# Altium integrated library UPM1J221MHD1TO.IntLib: 1 symbol
Pins are listed as number, name and electrical type; pins without a type are passive.

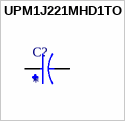
[diagram p0: symbol UPM1J221MHD1TO]

## UPM1J221MHD1TO
designator C?
220ÂµF 63V Aluminum Electrolytic Capacitors Radial, Can 5000 Hrs @ 105Â°C; MP: UPM1J221MHD1TO; MF: Nichicon; SnapEDA_Link: https://www.snapeda.com/parts/UPM1J221MHD1TO/Nichicon/view-part/546383/?ref=snap; Purchase-URL: https://pricing.snapeda.com/search/part/UPM1J221MHD1TO/?ref=eda; Availability: Warning; Check_prices: https://www.snapeda.com/parts/UPM1J221MHD1TO/Nichicon/view-part/546383/?ref=eda; Package: Radial Nichicon; Price: None; Value: *
footprint CAPPRD500W60D1250H2200
pins: N, P